# EAGLE library part HEADER-1X09 (library Header and Connector)
Header - 1X09
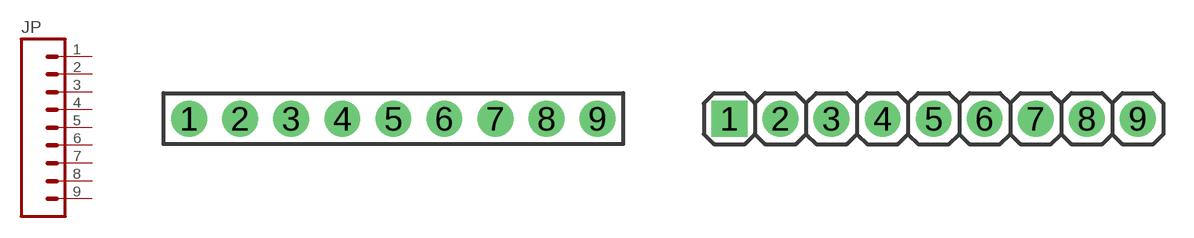
[diagram p4: symbol with the pads of HDR-F1X09; footprints HDR-F1X09, HDR-M1X09]

Designator prefix JP

## HEADER-1X09_(FEMALE) (CYTRON-PC: CN-PH-F140S; DESC: Female Header - 1x40 Ways; VALUE: 9/40 Ways)  [HDR-F1X09]
1  1  pas
2  2  pas
3  3  pas
4  4  pas
5  5  pas
6  6  pas
7  7  pas
8  8  pas
9  9  pas

## HEADER-1X09_(MALE) (CYTRON-PC: CN-PH-M140S; DESC: Male Header - 1x40 Ways; VALUE: 9/40 Ways)  [HDR-M1X09]
Pads as for HDR-F1X09

## HEADER-1X09_(SMD-MALE-RA) (CYTRON-PC: S-CN-PH-M140R; DESC: S Right Angle Male Header 1x40 Ways; VALUE: 9/40 Ways)  [S-HDR-M1X09-RA]
Pads as for HDR-F1X09

## Footprint HDR-F1X09 (pad centres in mm)
Female Header - 1X09
drill 1.016 pad 1.778: 1 0,0; 2 2.54,0; 3 5.08,0; 4 7.62,0; 5 10.16,0; 6 12.7,0; 7 15.24,0; 8 17.78,0; 9 20.32,0

## Footprint HDR-M1X09 (pad centres in mm)
Male Header - 1x09
drill 1.016 pad 1.778 square: 1 0,0
drill 1.016 pad 1.778: 2 2.54,0; 3 5.08,0; 4 7.62,0; 5 10.16,0; 6 12.7,0; 7 15.24,0; 8 17.78,0; 9 20.32,0

## Footprint S-HDR-M1X09-RA (pad centres in mm)
SMD Right Angle Male Header - 1X09 Created by: Wai Weng
smd 0.762 x 2.286: 1 -10.16,-5.08; 2 -7.62,-5.08; 3 -5.08,-5.08; 4 -2.54,-5.08; 5 0,-5.08; 6 2.54,-5.08; 7 5.08,-5.08; 8 7.62,-5.08; 9 10.16,-5.08